# Altium schematic symbol library PBL - Transistors.SCHLIB: 41 symbols
Pins are listed as number, name and electrical type; pins without a type are passive.

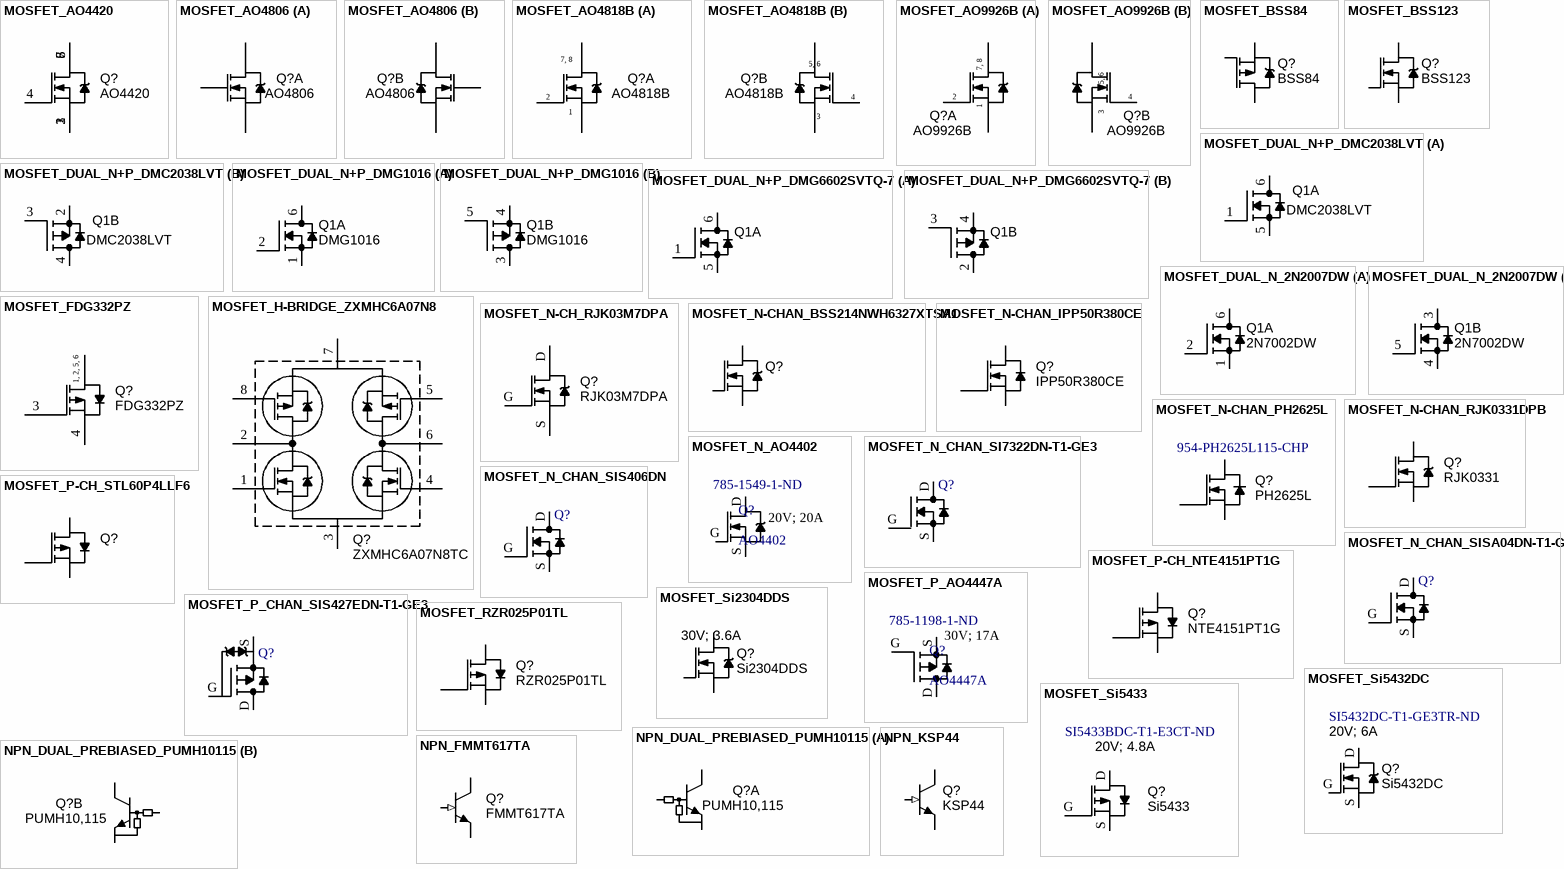
[diagram p0: symbols MOSFET_AO4420 to NPN_KSP44]

## MOSFET_AO4420
designator Q?, comment AO4420
MOSFET N-CH 30V 13.7A SOIC-8 SMD; Manufacturer 1: Alpha & Omega Semiconductor Inc; Material: Silicon; Ratings: 30V; 13.7A; SCDType: source; Package / Case: SOIC-8; Manufacturer Part Number 1: AO4420; ComponentLink1Description: http://www.aosmd.com/res/data_sheets/AO4420.pdf; ComponentLink1URL: http://www.aosmd.com/res/data_sheets/AO4420.pdf
footprint SOIC127P600X175-8AN (SOIC, 8-Leads, Body 4.9x3.9mm, Pitch 1.27mm, IPC Medium Density)
pins: 1 1,2,3, 2 S, 3 S, 4 G, 5 5,6,7,8, 6 D, 7 D, 8 D

## MOSFET_AO4806
designator Q?  Manufacturer Part Number 1: AO4806  (hidden comment: *)
MOSFET Dual-Channel 20V 9.4A SOIC-8 SMD; Manufacturer 1: Alpha & Omega Semiconductor Inc; Ratings: 2W; 20V; 9.4A; 14 mOhm; Material: Silicon; SCDType: source; Package / Case: SOIC-8; Supplier 1: Digi-Key; Supplier Part Number 1: 785-1056-1-ND
footprint SOIC127P600X175-8AN (SOIC, 8-Leads, Body 4.9x3.9mm, Pitch 1.27mm, IPC Medium Density)
part A pins: 1 S, 2 G, 7 D, 8 D
part B pins: 3 S, 4 G, 5 D, 6 D

## MOSFET_AO4818B
designator Q?  Manufacturer Part Number 1: AO4818B  (hidden comment: *)
MOSFET Dual-Channel 30V 8.5A SOIC-8 SMD; Manufacturer 1: Alpha & Omega Semiconductor Inc; Ratings: 2W; 30V; 8.5A; 16 mOhm; Material: Silicon; SCDType: source; Package / Case: SOIC-8; Supplier 1: Digi-Key; Supplier Part Number 1: 785-1059-1-ND
footprint SOIC127P600X175-8AN (SOIC, 8-Leads, Body 4.9x3.9mm, Pitch 1.27mm, IPC Medium Density)
part A pins: 1 S, 2 G, 7 D, 8 D
part B pins: 3 S, 4 G, 5 D, 6 D
part A text: 7, 8
part B text: 5, 6

## MOSFET_AO9926B
designator Q?, comment AO9926B
MOSFET SMD Dual-Channel 20V 7.6A SOIC-8; Manufacturer 1: Alpha & Omega Semiconductor Inc; Material: Silicon; Ratings: 2W; 20V; 7.6A; 34 mOhm @ 2.5V; SCDType: source; Supplier 1: Digi-Key; Supplier Part Number 1: 785-1100-2-ND; Manufacturer Part Number 1: AO9926B; Package / Case: SOIC-8; ComponentLink1URL: http://www.aosmd.com/res/data_sheets/AO9926B.pdf; ComponentLink1Description: http://www.aosmd.com/res/data_sheets/AO9926B.pdf
footprint SOIC127P600X175-8AN (SOIC, 8-Leads, Body 4.9x3.9mm, Pitch 1.27mm, IPC Medium Density)
part A pins: 1 S, 2 G, 7 D, 8 D
part B pins: 3 S, 4 G, 5 D, 6 D
part A text: 7, 8
part B text: 5, 6

## MOSFET_BSS84
designator Q?, comment BSS84
MOSFET SMD P-CH 50V 130mA SOT23-3; Manufacturer 1: Fairchild Semiconductor; Ratings: 50V; 130mA; Material: Metal Oxide; FET Type: MOSFET P-Channel, Metal Oxide; FET Feature: Logic Level Gate; Rds On (Max) @ Id, Vgs: 10 Ohm @ 100mA, 5V; Vgs(th) (Max) @ Id: 2V @ 1mA; Gate Charge (Qg) @ Vgs: 1.3nC @ 5V; Input Capacitance (Ciss) @ Vds: 73pF @ 25V; Power - Max: 360mW; SCDType: undef; Package / Case: SOT23-3; Supplier 1: Digi-Key; Supplier Part Number 1: BSS84CT-ND; Manufacturer Part Number 1: BSS84; Drain to Source Voltage (Vdss): 50V; Current - Continuous Drain (Id) @ 25° C: 130mA; Supplier Device Package: SOT-23; ComponentLink1URL: http://www.fairchildsemi.com/ds/BS/BSS84.pdf; ComponentLink1Description: http://www.fairchildsemi.com/ds/BS/BSS84.pdf
footprint SOT23-3 (SOT23, 3 pin)
pins: 1 G, 2 S, 3 D

## MOSFET_BSS123
designator Q?, comment BSS123
MOSFET SMD N-CH 100V 170mA SOT23-3; Manufacturer 1: Diodes Inc; Manufacturer Part Number 1: BSS123-7-F; Ratings: 100V; 170mA; Material: Metal Oxide; SCDType: source; Package / Case: SOT23-3; Supplier 1: Digi-Key; Supplier Part Number 1: BSS123-FDICT-ND
footprint SOT23-3 (SOT23, 3 pin)
pins: 1 G, 2 S, 3 D

## MOSFET_DUAL_N+P_DMC2038LVT
designator Q1, comment DMC2038LVT
MOSFET Dual Enh N+P 20V 500mW TSOT23-6 SMD; Manufacturer 1: Diodes Inc; Manufacturer Part Number 1: DMC2038LVT-7; Material: Si; Ratings: 20V, 500 mW, low Vgs(thresh); Rds On (Max) @ Id, Vgs: 74 mOhm @ 3.1A, -4.5V; Vgs(th) (Max) @ Id: 1V @ 250µA; SCDType: source; FET Type: N and P-Channel; FET Feature: Logic Level Gate; Current - Continuous Drain (Id) @ 25° C: 3.7A, 2.6A; Gate Charge (Qg) @ Vgs: 17nC @ 10V; Input Capacitance (Ciss) @ Vds: 530pF @ 10V; Power - Max: 770mW; Package / Case: SOT-23-6 Thin, TSOT-23-6; Supplier 1: Digi-Key; Supplier Part Number 1: DMC2038LVT-7DICT-ND; RoHS 1: RoHS Compliant; Drain to Source Voltage (Vdss): 20V; ComponentLink1URL: http://www.diodes.com/datasheets/DMC2038LVT.pdf; ComponentLink1Description: http://www.diodes.com/datasheets/DMC2038LVT.pdf; Value: DMC2038LVT
footprint TSOT23-6 (SOT-23-6 Thin, 6 lead)
part A pins: 1 G1, 5 S1, 6 D1
part B pins: 2 S2, 3 G2, 4 D2

## MOSFET_DUAL_N+P_DMG1016
designator Q1, comment DMG1016
MOSFET Dual Enh N+P 20V 330mW SOT363 SMD; Manufacturer 1: Diodes Inc; Manufacturer Part Number 1: DMG1016UDW-7; Material: Si; Ratings: 20V, 330 mW, low Vgs(thresh); Rds On (Max) @ Id, Vgs: 450 mOhm @ 600mA, 4.5V; Vgs(th) (Max) @ Id: 1V @ 250µA; SCDType: source; Package / Case: SOT-363; Supplier 1: Digi-Key; Supplier Part Number 1: DMG1016UDW-7DICT-ND; Supplier Device Package: SOT-363; ComponentLink1URL: http://www.diodes.com/datasheets/ds31860.pdf; ComponentLink1Description: http://www.diodes.com/datasheets/ds31860.pdf; Value: DMG1016
footprint SOT363 (Small outline 2.1mm L x 1.25mm W x 1mm H)
part A pins: 1, 2, 6
part B pins: 3, 4, 5

## MOSFET_DUAL_N+P_DMG6602SVTQ-7
designator Q1, comment DMG6602SVTQ-7  (value not drawn)
MOSFET N/P-CH 30V TSOT26; Supplier 1: Digi-Key; Supplier Part Number 1: DMG6602SVTQ-7DICT-ND
footprint SOT23-6
part A pins: 1, 5, 6
part B pins: 2, 3, 4

## MOSFET_DUAL_N_2N2007DW
designator Q1, comment 2N7002DW
MOSFET Dual Enh N-Ch 60V 115mA SOT363 SMD; Manufacturer 1: Diodes Inc; Manufacturer Part Number 1: 2N7002DW-7-F; Material: Si; Ratings: 60V, 200 mW; Rds On (Max) @ Id, Vgs: 7.5 Ohm @ 50mA, 5V; Vgs(th) (Max) @ Id: 2V @ 250µA; SCDType: source; FET Type: 2 N-Channel (Dual); FET Feature: Logic Level Gate; Input Capacitance (Ciss) @ Vds: 50pF @ 25V; Power - Max: 200mW; Package / Case: 6-TSSOP, SC-88, SOT-363; Supplier Device Package: SOT-363; Supplier 1: Digi-Key; Supplier Part Number 1: 2N7002DW-FDICT-ND; RoHS 1: RoHS Compliant; Drain to Source Voltage (Vdss): 60V; Current - Continuous Drain (Id) @ 25° C: 115mA; Gate Charge (Qg) @ Vgs: -; ComponentLink1URL: http://www.diodes.com/datasheets/ds30120.pdf; ComponentLink1Description: http://www.diodes.com/datasheets/ds30120.pdf; Supplier 2: Digi-Key; Supplier Part Number 2: 2N7002DW-TPCT-ND; Manufacturer 2: Micro Commercial Co; Manufacturer Part Number 2: 2N7002DW-TP; RoHS 2: RoHS Compliant; ComponentLink2URL: http://www.mccsemi.com/up_pdf/2N7002DW(SOT-363).PDF; ComponentLink2Description: http://www.mccsemi.com/up_pdf/2N7002DW(SOT-363).PDF; Supplier 3: Digi-Key; Supplier Part Number 3: 2N7002DWCT-ND; Manufacturer 3: Fairchild Semiconductor; Manufacturer Part Number 3: 2N7002DW; RoHS 3: RoHS Compliant; ComponentLink3URL: http://www.fairchildsemi.com/ds/2N/2N7002DW.pdf; ComponentLink3Description: http://www.fairchildsemi.com/ds/2N/2N7002DW.pdf; Supplier 4: Digi-Key; Supplier Part Number 4: 2N7002DW H6327CT-ND; Manufacturer 4: Infineon Technologies; Manufacturer Part Number 4: 2N7002DW H6327; RoHS 4: RoHS Compliant; ComponentLink4URL: http://www.infineon.com/dgdl/2N7002DW_Rev2.2_.pdf?folderId=db3a3043156fd573011622e10b5c1f67&fileId=db3a30431a5c32f2011ad94ed41363f2; ComponentLink4Description: http://www.infineon.com/dgdl/2N7002DW_Rev2.2_.pdf?folderId=db3a3043156fd573011622e10b5c1f67&fileId=db3a30431a5c32f2011ad94ed41363f2; Value: 2N7002DW
footprint SOT363 (Small outline 2.1mm L x 1.25mm W x 1mm H)
part A pins: 1 S2, 2 G2, 6 D2
part B pins: 3 D1, 4 S1, 5 G1

## MOSFET_FDG332PZ
designator Q?, comment Manufacturer Part Number 1: FDG332PZ  (hidden comment: P-Channel)
MOSFET SMD P-CH 20V 2.6A SC70-6; Manufacturer 1: Fairchild Semiconductor; Rds On (Max) @ Id, Vgs: 95 mOhm @ 2.6A, 4.5V; Ratings: 20V; 2.6A; 480mW; SCDType: source; Value: P-Channel; Package / Case: SC-70-6 / SOT-323-6; Supplier 1: Digi-Key; Supplier Part Number 1: FDG332PZCT-ND
footprint SC70-6
pins: 1 D, 2 D, 3 G, 4 S, 5 D, 6 D
text: 1, 2, 5, 6

## MOSFET_H-BRIDGE_ZXMHC6A07N8
designator Q?, comment Manufacturer Part Number 1: ZXMHC6A07N8TC  (hidden comment: H-BRIDGE)
MOSFET H-Bridge 2N 2P SOIC-8 SMD; Manufacturer 1: Diodes Inc; Material: Silicon; Ratings: 60V; 1.3A; Description 1: MOSFET COMPL H-BRIDGE 60V 8-SOIC; FET Type: 2 N and 2 P-Channel (H-Bridge); FET Feature: Logic Level Gate; Rds On (Max) @ Id, Vgs: 250 mOhm @ 1.8A, 10V; Drain to Source Voltage (Vdss): 60V; Vgs(th) (Max) @ Id: 3V @ 250µA; Gate Charge (Qg) @ Vgs: 3.2nC @ 10V; Current - Continuous Drain (Id) @ 25° C: 1.39A, 1.28A; Input Capacitance (Ciss) @ Vds: 166pF @ 40V; Power - Max: 870mW; SCDType: source; Package / Case: SOIC-8; Supplier 1: Digi-Key; Supplier Part Number 1: ZXMHC6A07N8DICT-ND; Category: Discrete Semiconductor Products; Mounting Type: Surface Mount; ComponentLink1URL: http://www.diodes.com/datasheets/ZXMHC6A07N8.pdf; ComponentLink1Description: http://www.diodes.com/datasheets/ZXMHC6A07N8.pdf
footprint SOIC127P600X175-8AN (SOIC, 8-Leads, Body 4.9x3.9mm, Pitch 1.27mm, IPC Medium Density)
pins: 1 N1G, 2 N1D/P1D, 3 N1S/N2S, 4 N2G, 5 P2G, 6 N2D/P2D, 7 P1S/P2S, 8 P1G

## MOSFET_N-CH_RJK03M7DPA
designator Q?, comment Manufacturer Part Number 1: RJK03M7DPA  (hidden comment: RJK03M7)
MOSFET N-Channel Power Switching 30V 30A WPAK SMD; Manufacturer 1: Renesas Electronics America; Ratings: 30V; 30A; SCDType: undef; Package / Case: 8-WDFN exposed pad; Supplier 1: QuadRep Northwest, Inc.; Supplier Part Number 1: RJK03M7DPA-00#J5A; ComponentLink1URL: http://documentation.renesas.com/doc/products/transistor/r07ds0773ej0110_rjk03m7dpa.pdf; ComponentLink1Description: http://documentation.renesas.com/doc/products/transistor/r07ds0773ej0110_rjk03m7dpa.pdf
footprint WPAK(3F) (Footprint similar to SOIC-8, Body 5.1x6.1mm, Pitch 1.27mm, IPC Medium Density)
pins: D 5,6,7,8, G 4, S 1,2,3

## MOSFET_N-CHAN_BSS214NWH6327XTSA1
designator Q?, comment BSS214NWH6327XTSA1  (value not drawn)
MOSFET N-CH 20V 1.5A SOT323; Manufacturer: Infineon Technologies; FET Type: N-Channel; Current - Continuous Drain (Id) @ 25°C: 1.5A (Ta); Drive Voltage (Max Rds On,  Min Rds On): 2.5V, 4.5V; Vgs(th) (Max) @ Id: 1.2V @ 3.7µA; Gate Charge (Qg) (Max) @ Vgs: 0.8nC @ 5V; Input Capacitance (Ciss) (Max) @ Vds: 143pF @ 10V; Vgs (Max): ±12V; Power Dissipation (Max): 500mW (Ta); Rds On (Max) @ Id, Vgs: 140 mOhm @ 1.5A, 4.5V; Supplier 1: Digi-Key; Supplier Part Number 1: BSS214NWH6327XTSA1CT-ND; Manufacturer Part Number: BSS214NWH6327XTSA1; Packaging: Cut Tape (CT); Part Status: Active; Technology: MOSFET (Metal Oxide); Drain to Source Voltage (Vdss): 20V; FET Feature: -; Operating Temperature: -55°C ~ 150°C (TJ); Mounting Type: Surface Mount; Supplier Device Package: PG-SOT323-3; Package / Case: SC-70, SOT-323; ComponentLink1URL: http://www.infineon.com/dgdl/Infineon-BSS214NW-DS-v02_02-en.pdf?fileId=db3a30431b3e89eb011b695aebc01bde; ComponentLink1Description: http://www.infineon.com/dgdl/Infineon-BSS214NW-DS-v02_02-en.pdf?fileId=db3a30431b3e89eb011b695aebc01bde; RoHS: RoHS Compliant; Category: Discrete Semiconductor Products; Stock 1: 13090; Pricing 1: 1=0.3, 10=0.246, 100=0.1304, 500=0.08576, 1000=0.05832 (USD)
footprint SOT323 (Small outline 2.1mm L x 1.25mm W x 1.1mm H; 3 lead SC70, EIAJ SC-70, SOT323)
pins: 1 G, 2 S, 3 D

## MOSFET_N-CHAN_IPP50R380CE
designator Q?, comment IPP50R380CE
N-Channel 9.9A (Tc) 73W (Tc) Through Hole PG-TO-220-3; Manufacturer: Infineon Technologies; Drive Voltage (Max Rds On,  Min Rds On): 13V; Vgs(th) (Max) @ Id: 3.5V @ 260µA; Gate Charge (Qg) (Max) @ Vgs: 24.8nC @ 10V; Input Capacitance (Ciss) (Max) @ Vds: 584pF @ 100V; Vgs (Max): ±20V; FET Feature: Super Junction; Rds On (Max) @ Id, Vgs: 380 mOhm @ 3.2A, 13V; Supplier 1: Digi-Key; Supplier Part Number 1: IPP50R380CE-ND; RoHS: RoHS Compliant; Category: Discrete Semiconductor Products; Stock 1: 183; Pricing 1: 1=1.16, 10=1.039, 100=0.8104, 500=0.66942, 1000=0.5285 (USD); Packaging: Tube; Part Status: Active; FET Type: N-Channel; Technology: MOSFET (Metal Oxide); Current - Continuous Drain (Id) @ 25°C: 9.9A (Tc); Power Dissipation (Max): 73W (Tc); Operating Temperature: -55°C ~ 150°C (TJ); Mounting Type: Through Hole; Supplier Device Package: PG-TO-220-3; Package / Case: TO-220-3; ComponentLink1URL: http://www.infineon.com/dgdl/IPx50R380CE_2.0.pdf?folderId=db3a3043163797a6011637d4bae7003b&fileId=db3a30432e398416012e5273936c15b0; ComponentLink1Description: http://www.infineon.com/dgdl/IPx50R380CE_2.0.pdf?folderId=db3a3043163797a6011637d4bae7003b&fileId=db3a30432e398416012e5273936c15b0; Manufacturer Part Number: IPP50R380CE
footprint TO220V-GDS
pins: 1 G, 2 D, 3 S

## MOSFET_N-CHAN_PH2625L
designator Q?, comment PH2625L  Supplier Part Number 1: 954-PH2625L115-CHP
MOSFET N-CH 25V 100A LFPAK; Supplier 1: Digi-Key
footprint LFPAK (Renesas LFPAK, a variant of SOIC-8; IPC Medium Density)
pins: 1 S, 2 S, 3 S, 4 G, 5 D

## MOSFET_N-CHAN_RJK0331DPB
designator Q?, comment RJK0331
MOSFET N-Channel Power Switching 30V 40A LFPAK SMD; Manufacturer 1: Renesas Electronics America; Manufacturer Part Number 1: RJK0331DPB-01#J0; Rds On (Max) @ Id, Vgs: 3.4 mOhm @ 20A, 10V; Vgs(th) (Max) @ Id: 2.5V @ 1mA; Ratings: 30V; 40A; 50W; SCDType: undef; Drain to Source Voltage (Vdss): 30V; Package / Case: SC-100, SOT-669; Current - Continuous Drain (Id) @ 25° C: 40A; Supplier Device Package: LFPAK; Supplier 1: Digi-Key; Supplier Part Number 1: RJK0331DPB-01#J0CT-ND; ComponentLink1URL: http://media.digikey.com/pdf/Data%20Sheets/Renesas/RJK0331DPB.pdf; ComponentLink1Description: RJK0331DPB.pdf
footprint LFPAK (Renesas LFPAK, a variant of SOIC-8; IPC Medium Density)
pins: 1 S, 2 S, 3 S, 4 G, 5 D

## MOSFET_N_AO4402
designator Q?, comment AO4402  Rating: 20V; 20A  Supplier Part Number 1: 785-1549-1-ND
MOSFET N-CH 20V 20A 8SOIC; Supplier 1: Digi-Key
footprint SOIC-8_FET (SOIC, 8-Leads with thermal tab, Body 4.9x3.9mm, Pitch 1.27mm, IPC Medium Density)
pins: D, G, S

## MOSFET_N_CHAN_SI7322DN-T1-GE3
designator Q?, comment SI7322DN-T1-GE3  (value not drawn)
MOSFET N-CH 100V 18A 1212-8; Supplier 1: Digi-Key; Supplier Part Number 1: SI7322DN-T1-GE3CT-ND
footprint 1212-8 PowerPAK Single
pins: D, G, S

## MOSFET_N_CHAN_SIS406DN
designator Q?, comment SIS406DN  (value not drawn)
Supplier 1: Digi-Key; Supplier Part Number 1: SIS406DN-T1-GE3CT-ND
footprint 1212-8 PowerPAK Single
pins: D, G, S

## MOSFET_N_CHAN_SISA04DN-T1-GE3
designator Q?, comment SISA04DN-T1-GE3  (value not drawn)
MOSFET N-CH 30V 40A 1212-8; Manufacturer: Vishay Siliconix; FET Type: N-Channel; Current - Continuous Drain (Id) @ 25°C: 40A (Tc); Drive Voltage (Max Rds On,  Min Rds On): 4.5V, 10V; Vgs(th) (Max) @ Id: 2.2V @ 250µA; Gate Charge (Qg) (Max) @ Vgs: 77nC @ 10V; Input Capacitance (Ciss) (Max) @ Vds: 3595pF @ 15V; Vgs (Max): +20V, -16V; Power Dissipation (Max): 3.7W (Ta), 52W (Tc); Rds On (Max) @ Id, Vgs: 2.15 mOhm @ 15A, 10V; Supplier 1: Digi-Key; Supplier Part Number 1: SISA04DN-T1-GE3CT-ND; Manufacturer Part Number: SISA04DN-T1-GE3; Packaging: Cut Tape (CT); Part Status: Active; Technology: MOSFET (Metal Oxide); Drain to Source Voltage (Vdss): 30V; FET Feature: -; Operating Temperature: -55°C ~ 150°C (TJ); Mounting Type: Surface Mount; Supplier Device Package: PowerPAK® 1212-8; Package / Case: PowerPAK® 1212-8; ComponentLink1URL: http://www.vishay.com/docs/63709/sisa04dn.pdf; ComponentLink1Description: http://www.vishay.com/docs/63709/sisa04dn.pdf; RoHS: RoHS Compliant; Category: Discrete Semiconductor Products; Stock 1: 2668; Pricing 1: 1=1.22, 10=1.094, 25=1.0384, 100=0.8528, 250=0.79724, 500=0.70452, 1000=0.5562 (USD)
footprint 1212-8 PowerPAK Single
pins: D, G, S

## MOSFET_P-CH_NTE4151PT1G
designator Q?, comment Manufacturer Part Number 1: NTE4151PT1G  (hidden comment: P-Channel)
MOSFET SMD P-CH 20V 0.76A 0.313W SOT523F; Manufacturer 1: ON Semiconductor; Rds On (Max) @ Id, Vgs: 360 mOhm @ 350mA, 4.5V; Ratings: 20V; 760mA; 313mW; SCDType: source; Value: P-Channel; Package / Case: SC-89, SOT523F; Supplier 1: Digi-Key; Supplier Part Number 1: NTE4151PT1GOSCT-ND; ComponentLink1URL: http://www.onsemi.com/pub_link/Collateral/NTA4151P-D.PDF; ComponentLink1Description: http://www.onsemi.com/pub_link/Collateral/NTA4151P-D.PDF
footprint SOT523F (3 Lead SC89; EIAJ-SC89; SOT523F)
pins: 1 G, 2 S, 3 D

## MOSFET_P-CH_STL60P4LLF6
designator Q?, comment STL60P4LLF6  (value not drawn)
MOSFET P-CH 40V 60A 8POWERFLAT; Value: P-Channel; Rds On (Max) @ Id, Vgs: 14 mOhm @ 6.5A, 10V; Ratings: 40V; 60A; 4.8W; SCDType: source; Package / Case: PowerFlat™ (5x6); ComponentLink1URL: http://www.onsemi.com/pub_link/Collateral/NTA4151P-D.PDF; ComponentLink1Description: http://www.onsemi.com/pub_link/Collateral/NTA4151P-D.PDF; Supplier 1: Digi-Key; Supplier Part Number 1: 497-15480-1-ND
footprint PowerFLAT 5x6 (SON, 8-Leads, Body 5.20x6.15mm, Pitch 1.27mm, Thermal Pad 4.41x3.54mm, IPC Low Density)
pins: 1 S, 2 S, 3 S, 4 G, 5 D, 6 D, 7 D, 8 D, 9 D

## MOSFET_P_AO4447A
designator Q?, comment AO4447A  Rating: 30V; 17A  Supplier Part Number 1: 785-1198-1-ND
MOSFET P-CH 30V 17A 8-SOIC; Supplier 1: Digi-Key
footprint SOIC-8_FET (SOIC, 8-Leads with thermal tab, Body 4.9x3.9mm, Pitch 1.27mm, IPC Medium Density)
pins: D, G, S

## MOSFET_P_CHAN_SIS427EDN-T1-GE3
designator Q?, comment SIS427EDN-T1-GE3  (value not drawn)
MOSFET P-CH 30V 50A 1212-8; Supplier 1: Digi-Key; Supplier Part Number 1: SIS427EDN-T1-GE3CT-ND
footprint 1212-8 PowerPAK Single
pins: D, G, S

## MOSFET_RZR025P01TL
designator Q?, comment Manufacturer Part Number 1: RZR025P01TL  (hidden comment: P-Channel)
MOSFET SMD P-CH 12V 2.5A 1W SOT23-3; Manufacturer 1: Rohm Semiconductor; Rds On (Max) @ Id, Vgs: 61 mOhm @ 2.5A, 4.5V; Ratings: 12V; 2.5A; 1W; SCDType: spec; Value: P-Channel; Package / Case: SOT23-3; TSMT3; Supplier 1: Digi-Key; Supplier Part Number 1: RZR025P01TLCT-ND
footprint SOT23-3 (SOT23, 3 pin)
pins: 1 G, 2 S, 3 D

## MOSFET_Si2304DDS
designator Q?, comment Si2304DDS  Ratings: 30V; 3.6A
MOSFET SMD N-CH 30V 3.6A 1.7W SOT23-3; Material: Metal Oxide; SCDType: source; Package / Case: SOT23-3; Supplier 1: Digi-Key; Supplier Part Number 1: SI2304DDS-T1-GE3CT-ND
footprint SOT23-3 (SOT23, 3 pin)
footprint SOT23-3  High Power (SOT23, 3 pin)
pins: 1 G, 2 S, 3 D

## MOSFET_Si5432DC
designator Q?, comment Si5432DC  Ratings: 20V; 6A  Supplier Part Number 1: SI5432DC-T1-GE3TR-ND
MOSFET N-CH 20V 6A 1206-8; Material: Metal Oxide; SCDType: source; Package / Case: SOT23-3; Supplier 1: Digi-Key
footprint 1206-8 ChipFET
pins: D, G, S

## MOSFET_Si5433
designator Q?, comment Si5433  Ratings: 20V; 4.8A  Supplier Part Number 1: SI5433BDC-T1-E3CT-ND
MOSFET P-CH 20V 4.8A 1206-8; Material: Metal Oxide; SCDType: source; Package / Case: SOT23-3; Supplier 1: Digi-Key
footprint 1206-8 ChipFET
pins: D, G, S

## NPN_DUAL_PREBIASED_PUMH10115
designator Q?, comment Manufacturer Part Number 1: PUMH10,115  (hidden comment: Pre-biased)
Transistor dual pre-biased NPN 50V 100mA SOT363 SMD; Manufacturer 1: NXP Semiconductors; Ratings: 300mW; 50V; 100mA; Material: Silicon; Resistor - Base (R1) (Ohms): 2.2K; Resistor - Emitter Base (R2) (Ohms): 47K; SCDType: source; Package / Case: SOT363; SC-88; Supplier 1: Digi-Key; Supplier Part Number 1: 568-6552-1-ND; ComponentLink1URL: http://www.nxp.com/documents/data_sheet/PEMH10_PUMH10.pdf; ComponentLink1Description: http://www.nxp.com/documents/data_sheet/PEMH10_PUMH10.pdf
footprint SOT363 (Small outline 2.1mm L x 1.25mm W x 1mm H)
part A pins: 1 E, 2 B, 6 C
part B pins: 3 C, 4 E, 5 B

## NPN_FMMT617TA
designator Q?  Manufacturer Part Number 1: FMMT617TA
Transistor SMD NPN 15V 3A SOT-23; Manufacturer 1: Diodes/Zetex; Ratings: 15V; 3A; 625mW; SCDType: spec; Supplier 1: Digi-Key; Supplier Part Number 1: FMMT617CT-ND; Package / Case: SOT-23
footprint SOT23-3 (SOT23, 3 pin)
pins: 1 B (in), 2 E, 3 C

## NPN_KSP44
designator Q?, comment KSP44
Transistor THD NPN 400V 300mA 625mW TO-92; Manufacturer 1: Fairchild Semiconductor; Manufacturer Part Number 1: KSP44TA; Ratings: 400V; 300mA; 625mW; Material: Si; SCDType: source; Package / Case: TO-92-3; Mounting Type: Thru-hole; Supplier 1: Digi-Key; Supplier Part Number 1: KSP44TATB-ND; Value: KSP44
footprint TO-92_Flat
footprint TO-92_Flat2
pins: 1 E, 2 B (in), 3 C

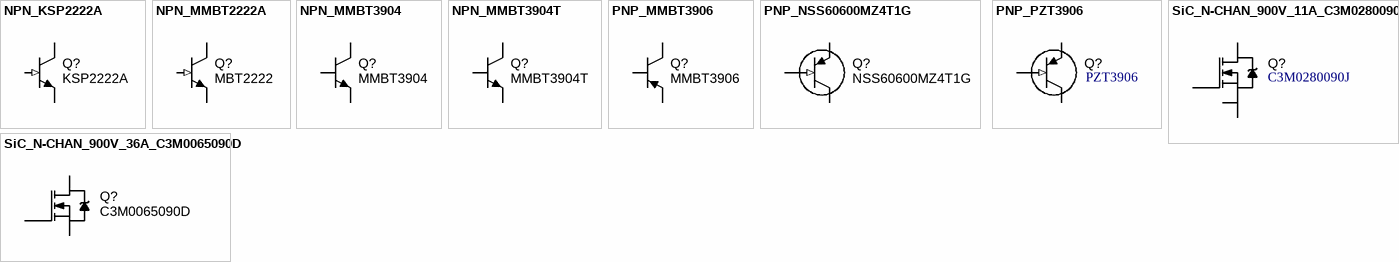
[diagram p1: symbols NPN_KSP2222A to SiC_N-CHAN_900V_36A_C3M0065090D]

## NPN_KSP2222A
designator Q?, comment KSP2222A
Transistor SMD NPN 40V 0.6A 625mW TO-92; Manufacturer 1: Fairchild Semiconductor; Manufacturer Part Number 1: KSP2222ATF; Ratings: 40V; 0.6A; 625mW; Material: Si; SCDType: source; Package / Case: TO-92-3; Value: NPN; Mounting Type: Thru-hole; Supplier 1: Digi-Key; Supplier Part Number 1: KSP2222ATF-ND; Supplier 2: Digi-Key; Supplier Part Number 2: PN2222AD26ZTR-ND; Manufacturer 2: Fairchild Semiconductor; Manufacturer Part Number 2: PN2222ATFR; Supplier 3: Digi-Key; Supplier Part Number 3: MPS2222ARLGOSTR-ND; Manufacturer 3: ON Semiconductor; Manufacturer Part Number 3: MPS2222ARLG
footprint TO-92_Flat
pins: 1 E, 2 B (in), 3 C

## NPN_MMBT2222A
designator Q?, comment MBT2222
Transistor SMD NPN 40V 600mA 250mW SOT23-3; Manufacturer 1: Fairchild Semiconductor; Manufacturer Part Number 1: MMBT2222A; Ratings: 40V; 600mA; 250mW; Material: Si; SCDType: source; Package / Case: SOT-23; Mounting Type: Surface Mount; Supplier 1: Digi-Key; Supplier Part Number 1: MMBT2222AFSTR-ND; Manufacturer 2: NXP Semiconductors; Manufacturer Part Number 2: MMBT2222A; Supplier 2: Digi-Key; Supplier Part Number 2: 568-4509-2-ND; Value: MBT2222
footprint SOT23-3 (SOT23, 3 pin)
pins: 1 B (in), 2 E, 3 C

## NPN_MMBT3904
designator Q?  Manufacturer Part Number 1: MMBT3904  (hidden comment: *)
Transistor SMD NPN 40V 0.2A 250mW SOT-23; Manufacturer 1: Fairchild Semiconductor; Ratings: 40V; 200mA; 250mW; Material: Si; SCDType: source; Package / Case: SOT-23; Supplier 1: Digi-Key; Supplier Part Number 1: MMBT3904FSCT-ND; Transistor Type: NPN; Mounting Type: Surface Mount; Supplier 2: Digi-Key; Supplier Part Number 2: 568-1741-1-ND; Manufacturer 2: NXP Semiconductors; Manufacturer Part Number 2: PMBT3904,215; ComponentLink2URL: http://www.nxp.com/documents/data_sheet/PMBT3904.pdf; ComponentLink2Description: http://www.nxp.com/documents/data_sheet/PMBT3904.pdf; ComponentLink1URL: http://www.fairchildsemi.com/ds/MM/MMBT3904.pdf; ComponentLink1Description: http://www.fairchildsemi.com/ds/MM/MMBT3904.pdf
footprint SOT23-3 (SOT23, 3 pin)
pins: 1 B, 2 E, 3 C

## NPN_MMBT3904T
designator Q?  Manufacturer Part Number 1: MMBT3904T  (hidden comment: *)
Transistor SMD NPN 40V 0.2A 250mW SOT-523F; Manufacturer 1: Fairchild Semiconductor; Ratings: 40V; 200mA; 250mW; Material: Si; SCDType: source; Current - Collector (Ic) (Max): 200mA; Vce Saturation (Max) @ Ib, Ic: 300mV @ 5mA, 50mA; DC Current Gain (hFE) (Min) @ Ic, Vce: 100 @ 10mA, 1V; Frequency - Transition: 300MHz; Package / Case: SOT-523F; Transistor Type: NPN; Mounting Type: Surface Mount; ComponentLink1URL: http://www.fairchildsemi.com/ds/MM/MMBT3904T.pdf; ComponentLink1Description: http://www.fairchildsemi.com/ds/MM/MMBT3904T.pdf; Supplier 1: Digi-Key; Supplier Part Number 1: MMBT3904TCT-ND; RoHS 1: RoHS Compliant; Voltage - Collector Emitter Breakdown (Max): 40V; Current - Collector Cutoff (Max): -; Power - Max: 250mW
footprint SOT523F (3 Lead SC89; EIAJ-SC89; SOT523F)
pins: 1 B, 2 E, 3 C

## PNP_MMBT3906
designator Q?  Manufacturer Part Number 1: MMBT3906  (hidden comment: *)
Transistor SMD PNP 40V 0.2A 350mW SOT-23; Manufacturer 1: Fairchild Semiconductor; Ratings: 40V; 200mA; 350mW; Material: Si; Transistor Type: NPN; Vce Saturation (Max) @ Ib, Ic: 400mV @ 5mA, 50mA; DC Current Gain (hFE) (Min) @ Ic, Vce: 100 @ 10mA, 1V; Frequency - Transition: 250MHz; SCDType: spec; Package / Case: SOT-23; Mounting Type: Surface Mount; Supplier 1: Digi-Key; Supplier Part Number 1: MMBT3906FSCT-ND; Supplier Device Package: SOT-23; ComponentLink1URL: http://www.fairchildsemi.com/ds/2N/2N3906.pdf; ComponentLink1Description: http://www.fairchildsemi.com/ds/2N/2N3906.pdf
footprint SOT23-3 (SOT23, 3 pin)
pins: 1 B, 2 E, 3 C

## PNP_NSS60600MZ4T1G
designator Q?, comment Manufacturer Part Number 1: NSS60600MZ4T1G  (hidden comment: PNP)
Transistor SMD PNP 60V 6A 800mW SOT-223; Manufacturer 1: ON Semiconductor; Ratings: 60V; 6A; 800mW; Material: Si; SCDType: undef; Package / Case: SOT-223; Transistor Type: PNP; Mounting Type: Surface Mount; Supplier 1: Digi-Key; Supplier Part Number 1: NSS60600MZ4T1GOSCT-ND
footprint SOT223 (SOT223 /SC-73)
pins: 1 B (in), 2 C, 3 E, 4 C

## PNP_PZT3906
designator Q?, comment Manufacturer Part Number: PZT3906  (hidden comment: PNP)
Bipolar (BJT) Transistor PNP 40V 200mA 250MHz 1W Surface Mount SOT-223-4; Manufacturer: ON Semiconductor; Description: TRANS PNP 40V 0.2A SOT223; Vce Saturation (Max) @ Ib, Ic: 400mV @ 5mA, 50mA; DC Current Gain (hFE) (Min) @ Ic, Vce: 100 @ 10mA, 1V; Supplier 1: Digi-Key; Supplier Part Number 1: PZT3906CT-ND; RoHS: RoHS Compliant; Category: Discrete Semiconductor Products; Stock 1: 13235; Pricing 1: 1=0.49, 10=0.369, 100=0.2297, 500=0.1572, 1000=0.12092 (USD); Packaging: Cut Tape (CT); Part Status: Active; Transistor Type: PNP; Current - Collector Cutoff (Max): -; Frequency - Transition: 250MHz; Operating Temperature: -55°C ~ 150°C (TJ); Mounting Type: Surface Mount; Package / Case: TO-261-4, TO-261AA; Supplier Device Package: SOT-223-4; ComponentLink1URL: https://www.fairchildsemi.com/datasheets/2N/2N3906.pdf; ComponentLink1Description: https://www.fairchildsemi.com/datasheets/2N/2N3906.pdf
footprint SOT223 (SOT223 /SC-73)
pins: 1 B (in), 2 C, 3 E, 4 C

## SiC_N-CHAN_900V_11A_C3M0280090J
designator Q?, comment Manufacturer Part Number: C3M0280090J  (hidden comment: C3M0065090D)
N-Channel 36A (Tc) 125W (Tc) Through Hole TO-247-3; Manufacturer: Cree/Wolfspeed; Current - Continuous Drain (Id) @ 25°C: 11A (Tc); Drive Voltage (Max Rds On,  Min Rds On): 15V; Vgs(th) (Max) @ Id: 3.5V @ 1.2mA; Gate Charge (Qg) (Max) @ Vgs: 9.5nC @ 15V; Input Capacitance (Ciss) (Max) @ Vds: 150pF @ 600V; Vgs (Max): +18V, -8V; Power Dissipation (Max): 50W (Tc); Rds On (Max) @ Id, Vgs: 360 mOhm @ 7.5A, 15V; Supplier 1: Digi-Key; Supplier Part Number 1: C3M0280090J-ND; RoHS: RoHS Compliant; Category: Discrete Semiconductor Products; Stock 1: 713; Pricing 1: 1=3.84 (USD); Packaging: Tube; Part Status: Active; FET Type: N-Channel; Technology: SiCFET (Silicon Carbide); FET Feature: -; Operating Temperature: -55°C ~ 150°C (TJ); Mounting Type: Surface Mount; Supplier Device Package: D2PAK-7; Package / Case: TO-263-8, D²Pak (7 Leads + Tab), TO-263CA; ComponentLink1URL: http://www.wolfspeed.com/media/downloads/835/C3M0280090J.pdf; ComponentLink1Description: http://www.wolfspeed.com/media/downloads/835/C3M0280090J.pdf
footprint DPAK127P1618X457-8N (TO, 8-Pads, Body 7.66x8.48mm (max), IPC Medium Density)
pins: 1 G, 2, 3 S, 4, 5, 6, 7, 8 D

## SiC_N-CHAN_900V_36A_C3M0065090D
designator Q?, comment C3M0065090D
N-Channel 36A (Tc) 125W (Tc) Through Hole TO-247-3; Manufacturer: Cree/Wolfspeed; Drive Voltage (Max Rds On,  Min Rds On): 15V; Vgs(th) (Max) @ Id: 2.1V @ 5mA; Gate Charge (Qg) (Max) @ Vgs: 30.4nC @ 15V; Input Capacitance (Ciss) (Max) @ Vds: 660pF @ 600V; Vgs (Max): +18V, -8V; Rds On (Max) @ Id, Vgs: 78 mOhm @ 20A, 15V; Supplier 1: Digi-Key; Supplier Part Number 1: C3M0065090D-ND; RoHS: RoHS Compliant; Category: Discrete Semiconductor Products; Stock 1: 2984; Pricing 1: 1=10.5 (USD); Packaging: Tube; Part Status: Active; FET Type: N-Channel; Technology: SiCFET (Silicon Carbide); Current - Continuous Drain (Id) @ 25°C: 36A (Tc); FET Feature: -; Power Dissipation (Max): 125W (Tc); Operating Temperature: -55°C ~ 150°C (TJ); Mounting Type: Through Hole; Supplier Device Package: TO-247-3; Package / Case: TO-247-3; ComponentLink1URL: http://www.wolfspeed.com/media/downloads/176/C3M0065090D.pdf; ComponentLink1Description: http://www.wolfspeed.com/media/downloads/176/C3M0065090D.pdf; Manufacturer Part Number: C3M0065090D
footprint TO-247-3
pins: 1 G, 2 D, 3 S